# Altium footprint library LPEDT_Parts.PcbLib: 24 footprints (part 1 of 2)
Each footprint in its own frame and in the unit in brackets; x right, y up, seen from the top. Pads: shape width x height; smd on the part's side, far side on the other; paste and mask are expansions set on the pad; w line width, h text height; cw(c..) or ccw(c..) is an arc to the next point about the centre after c.
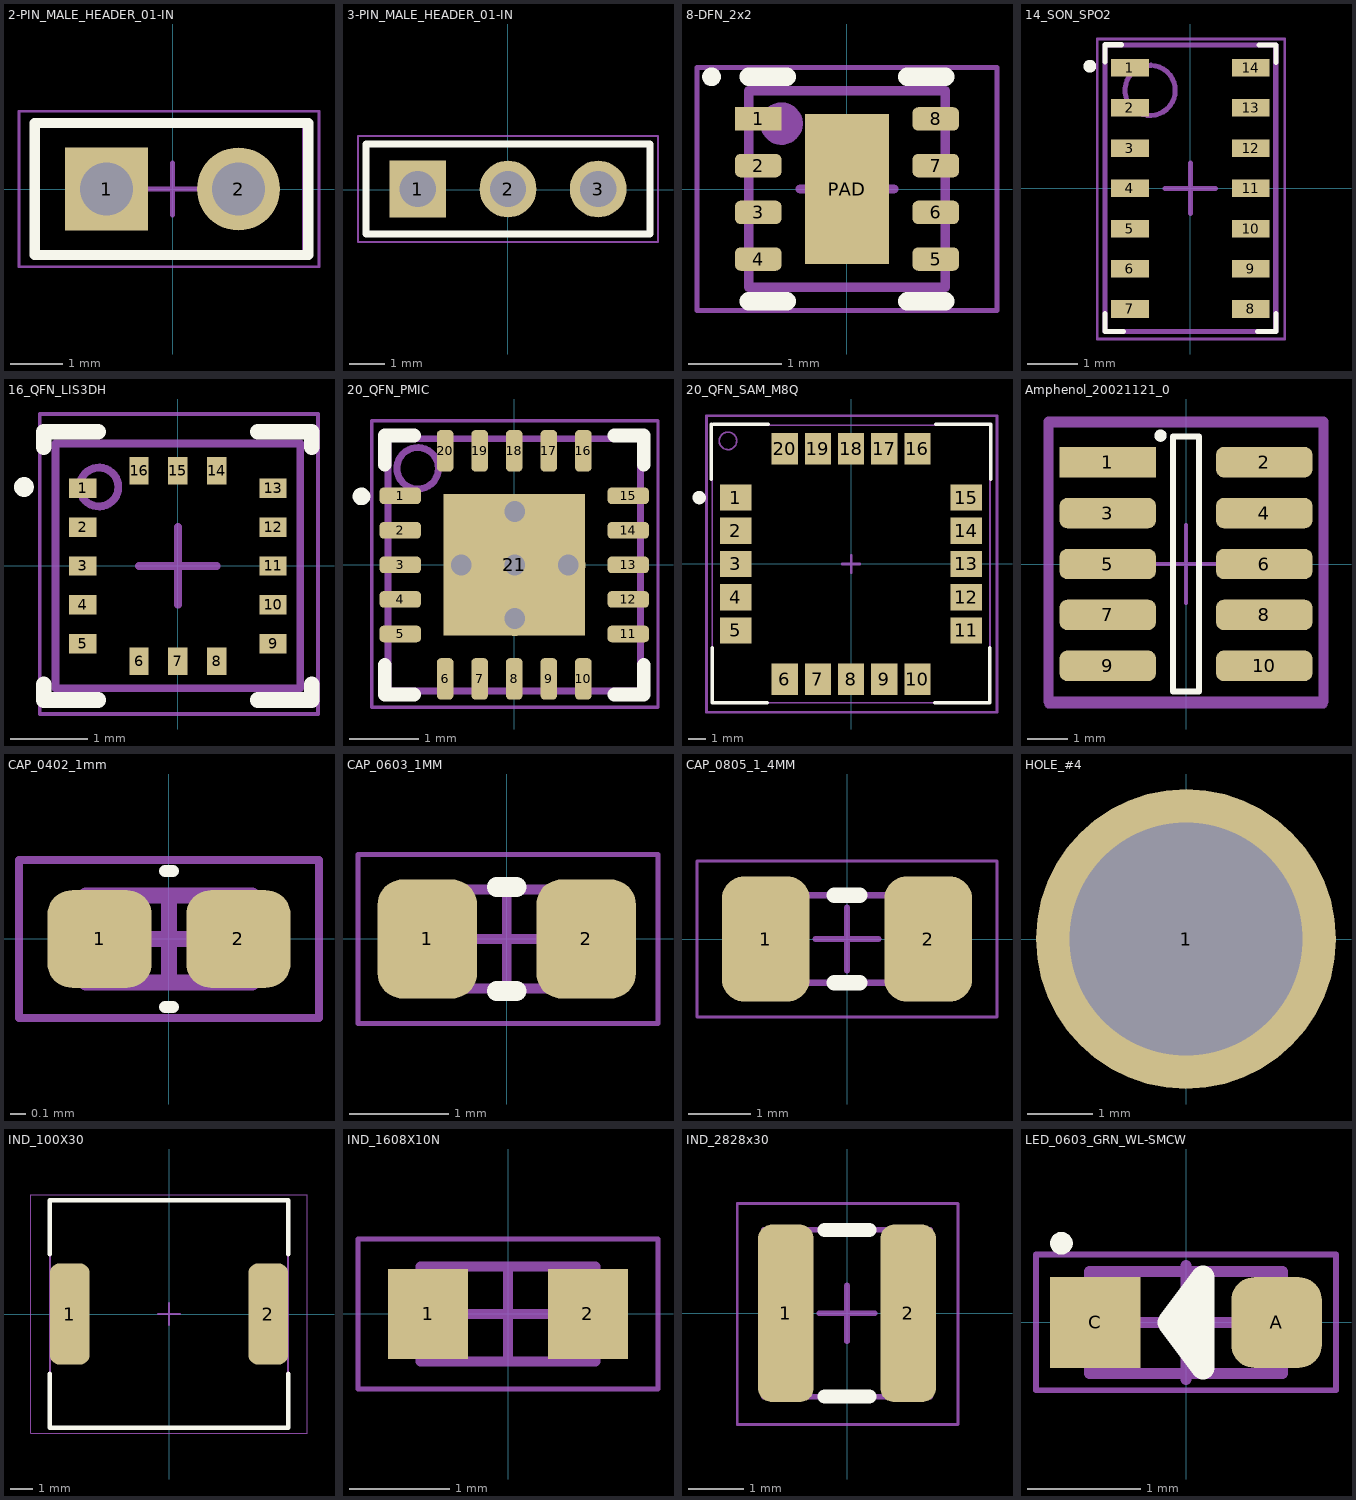
[diagram p0: the footprints below, top view; thin cyan lines are the x and y axes]

## 2-PIN_MALE_HEADER_01-IN [mm] ".025 SQ Post Terminal Strip Assembly, 1x2 Pins, Vertical, 2.54mm Pitch, Male"
height 8.58
pads (2):
  rect 1.6x1.6 hole 1.02: 1(-1.27,0)
  round 1.6 hole 1.02: 2(1.27,0)
Top Overlay:
  lines w0.2: -2.654,-1.27 -2.654,1.27 2.616,1.27 2.616,-1.27 -2.654,-1.27
Mechanical 13:
  lines w0.1: -2.616,-1.27 -2.616,1.27 2.54,1.27 2.54,-1.27 -2.616,-1.27
  text ".Designator" at -2.032,-0.813 h2.54
Mechanical 15:
  lines w0.05: -2.955,-1.495 -2.955,1.495 2.819,1.495 2.819,-1.495 -2.955,-1.495
  lines w0.1: -0.5,0 0.5,0 ; 0,-0.5 0,0.5
3D body "HTSW-102-07-H-S.stp": height 8.38, standoff -2.54, extent -2.54,-1.194 2.54,1.295

## 3-PIN_MALE_HEADER_01-IN [mm] ".025 SQ Post Terminal Strip Assembly, 1x3 Pins, Vertical, 2.54mm Pitch, Male"
height 8.58
pads (3):
  rect 1.6x1.6 hole 1.02: 1(-2.54,0.025)
  round 1.6 hole 1.02: 2(0,0.025) 3(2.54,0.025)
Top Overlay:
  lines w0.2: -4,-1.245 -4,1.295 4,1.295 4,-1.245 -4,-1.245
Mechanical 13:
  lines w0.1: -4,-1.245 -4,1.295 4,1.295 4,-1.245 -4,-1.245
  text ".Designator" at -3.454,-0.838 h2.54
Mechanical 15:
  lines w0.05: -4.225,-1.47 -4.225,1.52 4.225,1.52 4.225,-1.47 -4.225,-1.47
  lines w0.1: -0.5,0.025 0.5,0.025 ; 0,-0.475 0,0.525
3D body "User Library-Header_Male_3Pin.STEP": height 8.54, standoff -3, extent -3.81,-1.245 3.81,1.245

## 8-DFN_2x2 [mm] "DFN, 8-leads, Body 2.00x2.00mm, Pitch 0.50mm, Thermal Pad 1.60x0.69mm, IPC Medium Density"
height 0.8
pads (9):
  rect 0.5x0.25 smd mask+0.07: 1(-0.95,0.75)
  rrect50% 0.5x0.25 smd mask+0.07: 2(-0.95,0.25) 3(-0.95,-0.25) 4(-0.95,-0.75) 5(0.95,-0.75) 6(0.95,-0.25) 7(0.95,0.25) 8(0.95,0.75)
  rect 0.9x1.6 smd paste-1 mask+0.07: PAD(0,0)
Top Overlay:
  circle w0.1: c-1.45,1.2 r0.05
  lines w0.2: -1.05,-1.2 -0.645,-1.2 ; -1.05,1.2 -0.645,1.2 ; 0.645,-1.2 1.05,-1.2 ; 0.645,1.2 1.05,1.2
Top Paste:
  rectangle: -0.45,0.1 0.45,0.8
  rectangle: -0.45,-0.8 0.45,-0.1
Mechanical 13:
  circle w0.254: c-0.7,0.7 r0.1
  lines w0.1: -1.05,-1.05 -1.05,1.05 1.05,1.05 1.05,-1.05 -1.05,-1.05
  text ".Designator" at -0.965,-0.625 h1.27
Mechanical 15:
  lines w0.05: -1.605,-1.3 -1.605,1.3 1.605,1.3 1.605,-1.3 -1.605,-1.3
  lines w0.1: -0.5,0 0.5,0 ; 0,-0.5 0,0.5
3D body "8-DFN_2x2.step": height 0.8, standoff 0, extent -1.051,-1.05 1.051,1.05

## 14_SON_SPO2 [mm] "SON, 14-Leads, Body 5.60x3.30mm, Pitch 1.27mm, IPC Medium Density"
height 1.65
pads (14):
  rect 0.75x0.35 smd mask+0.076: 1(-1.2,2.4) 2(-1.2,1.6) 3(-1.2,0.8) 4(-1.2,0) 5(-1.2,-0.8) 6(-1.2,-1.6) 7(-1.2,-2.4) 8(1.2,-2.4) 9(1.2,-1.6) 10(1.2,-0.8) 11(1.2,0) 12(1.2,0.8) 13(1.2,1.6) 14(1.2,2.4)
Top Overlay:
  circle w0.152: c-2,2.43 r0.051
  lines w0.1: -1.702,-2.489 -1.702,-2.845 -1.333,-2.845 ; -1.702,2.515 -1.702,2.857 -1.372,2.857 ; 1.333,-2.845 1.702,-2.845 1.702,-2.489 ; 1.372,2.851 1.702,2.851 1.702,2.508
Mechanical 3:
  lines w0.05: -1.854,-2.997 1.88,-2.997 1.88,2.972 -1.854,2.972 -1.854,-2.997
  lines w0.1: -0.5,0 0.5,0 ; 0,-0.5 0,0.5
Mechanical 13:
  circle w0.1: c-0.8,1.95 r0.5
  lines w0.1: -1.7,-2.85 1.7,-2.85 1.7,2.85 -1.7,2.85 -1.7,-2.85
  text ".Designator" at -1.537,-2.68 h2.03
3D body "MAX30102EFD+T.STEP": height 1.65, standoff 0, extent -1.65,-2.81 1.65,2.79

## 16_QFN_LIS3DH [mm] "QFN, 16-Leads, Body 3.00x3.00mm, Pitch 0.50mm, Thermal Pad 1.25x2.25mm, IPC Medium Density"
height 1
pads (16):
  rect 0.35x0.25 smd mask+0.05: 1(-1.225,1) 2(-1.225,0.5) 3(-1.225,0) 4(-1.225,-0.5) 5(-1.225,-1) 9(1.225,-1) 10(1.225,-0.5) 11(1.225,0) 12(1.225,0.5) 13(1.225,1)
  rect 0.25x0.35 smd mask+0.05: 6(-0.5,-1.225) 7(0,-1.225) 8(0.5,-1.225) 14(0.5,1.225) 15(0,1.225) 16(-0.5,1.225)
Top Overlay:
  circle w0.152: c-1.981,1.016 r0.051
  lines w0.2: -1.725,-1.525 -1.725,-1.725 -1.025,-1.725 ; -1.725,1.525 -1.725,1.725 -1.025,1.725 ; 1.025,-1.725 1.725,-1.725 1.725,-1.525 ; 1.025,1.725 1.725,1.725 1.725,1.525
Mechanical 13:
  circle w0.1: c-1.016,1.016 r0.25
  lines w0.1: -1.575,-1.575 -1.575,1.575 1.575,1.575 1.575,-1.575 -1.575,-1.575
  text ".Designator" at -1.41,-1.114 h1.78
Mechanical 15:
  lines w0.05: -1.778,-1.905 -1.778,1.956 1.803,1.956 1.803,-1.905 -1.778,-1.905
  lines w0.1: -0.5,0 0.5,0 ; 0,-0.5 0,0.5
3D body "LIS3DH--3DModel-STEP-56544.STEP": height 1, standoff 0, extent -1.5,-1.5 1.5,1.5

## 20_QFN_PMIC [mm]
height 1
pads (21):
  rrect50% 0.6x0.24 smd mask+0.07: 1(-1.65,1) 2(-1.65,0.5) 3(-1.65,0) 4(-1.65,-0.5) 5(-1.65,-1) 11(1.65,-1) 12(1.65,-0.5) 13(1.65,0) 14(1.65,0.5) 15(1.65,1)
  rrect50% 0.24x0.6 smd mask+0.07: 6(-1,-1.65) 7(-0.5,-1.65) 8(0,-1.65) 9(0.5,-1.65) 10(1,-1.65) 16(1,1.65) 17(0.5,1.65) 18(0,1.65) 19(-0.5,1.65) 20(-1,1.65)
  rect 2.05x2.05 smd paste-1 mask+0.07: 21(0,0)
via 0.007,-0.777 diameter 0.5 hole 0.3
via 0.782,-0.002 diameter 0.5 hole 0.3
via 0.007,0.773 diameter 0.5 hole 0.3
via -0.768,-0.002 diameter 0.5 hole 0.3
via 0.007,-0.002 diameter 0.5 hole 0.3
Top Overlay:
  circle w0.152: c-2.21,0.991 r0.051
  lines w0.2: -1.873,-1.448 -1.873,-1.873 -1.448,-1.873 ; -1.873,1.448 -1.873,1.873 -1.448,1.873 ; 1.448,-1.873 1.873,-1.873 1.873,-1.448 ; 1.448,1.873 1.873,1.873 1.873,1.448
Top Paste:
  region: -0.24,-0.25 -1.025,-0.25 -1.025,-1.027 -0.24,-1.027
  region: 1.024,-0.249 0.255,-0.249 0.255,-1.027 1.024,-1.027
  rectangle: 0.254,0.245 1.024,1.029
  rectangle: -1.027,0.246 -0.241,1.029
Mechanical 13:
  circle w0.1: c-1.397,1.397 r0.3
  lines w0.1: -1.825,-1.825 -1.825,1.825 1.825,1.825 1.825,-1.825 -1.825,-1.825
  text ".Designator" at -1.537,-1.257 h2.03
Mechanical 15:
  lines w0.05: -2.062,-2.057 -2.062,2.083 2.08,2.083 2.08,-2.057 -2.062,-2.057
  lines w0.1: -0.5,0 0.5,0 ; 0,-0.5 0,0.5
3D body "BQ25570RGRT.STEP": height 1, standoff 0, extent -1.75,-1.75 1.75,1.75

## 20_QFN_SAM_M8Q [mm] "QFN, 20-Leads, Body 15.65x15.65mm, Pitch 1.90mm, Thermal Pad 9.10x9.10mm, IPC Medium Density"
height 6.8
pads (20):
  rect 1.8x1.5 smd paste-1: 1(-6.6,3.8) 2(-6.6,1.9) 3(-6.6,0) 4(-6.6,-1.9) 5(-6.6,-3.8) 11(6.6,-3.8) 12(6.6,-1.9) 13(6.6,0) 14(6.6,1.9) 15(6.6,3.8)
  rect 1.5x1.8 smd paste-1: 6(-3.8,-6.6) 7(-1.9,-6.6) 8(0,-6.6) 9(1.9,-6.6) 10(3.8,-6.6) 16(3.8,6.6) 17(1.9,6.6) 18(0,6.6) 19(-1.9,6.6) 20(-3.8,6.6)
Top Overlay:
  circle w0.508: c-8.7,3.8 r0.125
  lines w0.2: -8,4.85 -8,8 ; -7.95,-4.8 -7.95,-7.95 -4.8,-7.95 ; -7.9,8 -4.75,8 ; 4.8,-7.95 7.95,-7.95 7.95,-4.8 ; 4.85,8 8,8 8,4.85
Top Paste:
  rectangle: -4.52,5.74 -3.94,6.46
  rectangle: -3.66,5.74 -3.08,6.46
  rectangle: -4.52,6.74 -3.94,7.46
  rectangle: -3.66,6.74 -3.08,7.46
  rectangle: -1.76,5.74 -1.18,6.46
  rectangle: -1.76,6.74 -1.18,7.46
  rectangle: -2.62,5.74 -2.04,6.46
  rectangle: -2.62,6.74 -2.04,7.46
  rectangle: 0.14,5.74 0.72,6.46
  rectangle: 0.14,6.74 0.72,7.46
  rectangle: -0.72,5.74 -0.14,6.46
  rectangle: -0.72,6.74 -0.14,7.46
  rectangle: 2.04,5.74 2.62,6.46
  rectangle: 2.04,6.74 2.62,7.46
  rectangle: 1.18,5.74 1.76,6.46
  rectangle: 1.18,6.74 1.76,7.46
  rectangle: 3.94,5.74 4.52,6.46
  rectangle: 3.94,6.74 4.52,7.46
  rectangle: 3.08,5.74 3.66,6.46
  rectangle: 3.08,6.74 3.66,7.46
  rectangle: -4.52,-7.46 -3.94,-6.74
  rectangle: -3.66,-7.46 -3.08,-6.74
  rectangle: -4.52,-6.46 -3.94,-5.74
  rectangle: -3.66,-6.46 -3.08,-5.74
  rectangle: -1.76,-7.46 -1.18,-6.74
  rectangle: -1.76,-6.46 -1.18,-5.74
  rectangle: -2.62,-7.46 -2.04,-6.74
  rectangle: -2.62,-6.46 -2.04,-5.74
  rectangle: 0.14,-7.46 0.72,-6.74
  rectangle: 0.14,-6.46 0.72,-5.74
  rectangle: -0.72,-7.46 -0.14,-6.74
  rectangle: -0.72,-6.46 -0.14,-5.74
  rectangle: 2.04,-7.46 2.62,-6.74
  rectangle: 2.04,-6.46 2.62,-5.74
  rectangle: 1.18,-7.46 1.76,-6.74
  rectangle: 1.18,-6.46 1.76,-5.74
  rectangle: 3.94,-7.46 4.52,-6.74
  rectangle: 3.94,-6.46 4.52,-5.74
  rectangle: 3.08,-7.46 3.66,-6.74
  rectangle: 3.08,-6.46 3.66,-5.74
  region: -5.74,-4.52 -5.74,-3.94 -6.46,-3.94 -6.46,-4.52
  region: -5.74,-3.66 -5.74,-3.08 -6.46,-3.08 -6.46,-3.66
  region: -6.74,-4.52 -6.74,-3.94 -7.46,-3.94 -7.46,-4.52
  region: -6.74,-3.66 -6.74,-3.08 -7.46,-3.08 -7.46,-3.66
  region: -5.74,-1.76 -5.74,-1.18 -6.46,-1.18 -6.46,-1.76
  region: -6.74,-1.76 -6.74,-1.18 -7.46,-1.18 -7.46,-1.76
  region: -5.74,-2.62 -5.74,-2.04 -6.46,-2.04 -6.46,-2.62
  region: -6.74,-2.62 -6.74,-2.04 -7.46,-2.04 -7.46,-2.62
  region: -5.74,0.14 -5.74,0.72 -6.46,0.72 -6.46,0.14
  region: -6.74,0.14 -6.74,0.72 -7.46,0.72 -7.46,0.14
  region: -5.74,-0.72 -5.74,-0.14 -6.46,-0.14 -6.46,-0.72
  region: -6.74,-0.72 -6.74,-0.14 -7.46,-0.14 -7.46,-0.72
  region: -5.74,2.04 -5.74,2.62 -6.46,2.62 -6.46,2.04
  region: -6.74,2.04 -6.74,2.62 -7.46,2.62 -7.46,2.04
  region: -5.74,1.18 -5.74,1.76 -6.46,1.76 -6.46,1.18
  region: -6.74,1.18 -6.74,1.76 -7.46,1.76 -7.46,1.18
  region: -5.74,3.94 -5.74,4.52 -6.46,4.52 -6.46,3.94
  region: -6.74,3.94 -6.74,4.52 -7.46,4.52 -7.46,3.94
  region: -5.74,3.08 -5.74,3.66 -6.46,3.66 -6.46,3.08
  region: -6.74,3.08 -6.74,3.66 -7.46,3.66 -7.46,3.08
  region: 7.46,-4.52 7.46,-3.94 6.74,-3.94 6.74,-4.52
  region: 7.46,-3.66 7.46,-3.08 6.74,-3.08 6.74,-3.66
  region: 6.46,-4.52 6.46,-3.94 5.74,-3.94 5.74,-4.52
  region: 6.46,-3.66 6.46,-3.08 5.74,-3.08 5.74,-3.66
  region: 7.46,-1.76 7.46,-1.18 6.74,-1.18 6.74,-1.76
  region: 6.46,-1.76 6.46,-1.18 5.74,-1.18 5.74,-1.76
  region: 7.46,-2.62 7.46,-2.04 6.74,-2.04 6.74,-2.62
  region: 6.46,-2.62 6.46,-2.04 5.74,-2.04 5.74,-2.62
  region: 7.46,0.14 7.46,0.72 6.74,0.72 6.74,0.14
  region: 6.46,0.14 6.46,0.72 5.74,0.72 5.74,0.14
  region: 7.46,-0.72 7.46,-0.14 6.74,-0.14 6.74,-0.72
  region: 6.46,-0.72 6.46,-0.14 5.74,-0.14 5.74,-0.72
  region: 7.46,2.04 7.46,2.62 6.74,2.62 6.74,2.04
  region: 6.46,2.04 6.46,2.62 5.74,2.62 5.74,2.04
  region: 7.46,1.18 7.46,1.76 6.74,1.76 6.74,1.18
  region: 6.46,1.18 6.46,1.76 5.74,1.76 5.74,1.18
  region: 7.46,3.94 7.46,4.52 6.74,4.52 6.74,3.94
  region: 6.46,3.94 6.46,4.52 5.74,4.52 5.74,3.94
  region: 7.46,3.08 7.46,3.66 6.74,3.66 6.74,3.08
  region: 6.46,3.08 6.46,3.66 5.74,3.66 5.74,3.08
Mechanical 13:
  circle w0.1: c-7.05,7.05 r0.5
  lines w0.1: -7.95,-7.95 -7.95,7.95 7.95,7.95 7.95,-7.95 -7.95,-7.95
  text ".Designator" at -6.248,-4.191 h7.62
Mechanical 15:
  lines w0.15: -0.5,0 0.5,0 ; 0,-0.5 0,0.5 ; -8.28,-8.5 -8.28,8.5 8.357,8.5 8.357,-8.5 -8.28,-8.5
3D body "SAM-M8Q-0-10--3DModel-STEP-1.STEP": height 6.8, standoff 0, extent -7.75,-7.75 7.75,7.75

## Amphenol_20021121_0 [mm]
pads (10):
  rect 2.4x0.76 smd paste+0 mask+0.051: 1(-1.95,2.54)
  rrect50% 2.4x0.76 smd paste+0 mask+0.051: 2(1.95,2.54) 3(-1.95,1.27) 4(1.95,1.27) 5(-1.95,0) 6(1.95,0) 7(-1.95,-1.27) 8(1.95,-1.27) 9(-1.95,-2.54) 10(1.95,-2.54)
Top Overlay:
  circle w0.152: c-0.635,3.2 r0.076
  lines w0.152: -0.325,-3.175 -0.325,3.175 0.325,3.175 0.325,-3.175 -0.325,-3.175
Mechanical 13:
  lines w0.254: -3.429,-3.429 3.429,-3.429 3.429,3.556 -3.429,3.556 -3.429,-3.429
  text ".Designator" at -2.921,-2.413 h1.52
Mechanical 15:
  lines w0.1: -0.975,0 0.975,0 ; 0,-0.975 0,0.975
  lines w0.2: -3.429,-3.5 -3.429,3.5 3.429,3.5 3.429,-3.5 -3.429,-3.5
3D body "20021121-00010C1LF--3DModel-STEP-533217.STEP": height 4.51, standoff 0.01, extent -2.75,-3.175 2.75,3.175

## CAP_0402_1mm [mm] "1.00x0.5"
height 0.55
pads (2):
  rrect50% 0.66x0.62 smd mask+0.08: 1(-0.44,0) 2(0.44,0)
Top Overlay:
  lines w0.076: -0.025,-0.432 0.025,-0.432 ; -0.025,0.432 0.025,0.432
Mechanical 13:
  lines w0.1: -0.525,-0.275 -0.525,0.275 0.525,0.275 0.525,-0.275 -0.525,-0.275
  text ".Designator" at -0.405,-0.158 h0.28
Mechanical 15:
  lines w0.05: -0.95,-0.5 -0.95,0.5 0.95,0.5 0.95,-0.5 -0.95,-0.5
  lines w0.1: -0.275,0 0.275,0 ; 0,-0.275 0,0.275
3D body "CAP_0402_1mm.step": height 0.55, standoff 0, extent -0.525,-0.275 0.525,0.275

## CAP_0603_1MM [mm] "Chip Capacitor, 2-Leads, Body 1.60x0.80mm, IPC Medium Density"
height 1
pads (2):
  rrect50% 1x1.2 smd: 1(-0.8,0) 2(0.8,0)
Top Overlay:
  lines w0.2: -0.1,-0.525 0.1,-0.525 ; -0.1,0.525 0.1,0.525
Mechanical 13:
  lines w0.1: -0.9,-0.5 0.9,-0.5 0.9,0.5 -0.9,0.5 -0.9,-0.5
  text ".Designator" at -0.813,-0.33 h1.02
Mechanical 15:
  lines w0.05: -1.499,-0.85 1.524,-0.85 1.524,0.85 -1.499,0.85 -1.499,-0.85
  lines w0.1: -0.5,0 0.5,0 ; 0,-0.5 0,0.5
3D body "CAP_0603_1608X10.step": height 1, standoff 0, extent -0.9,-0.5 0.9,0.5

## CAP_0805_1_4MM [mm] "Chip Capacitor, 2-Leads, Body 2.00x1.25mm, IPC Medium Density"
height 1.4
pads (2):
  rrect50% 1.4x2 smd: 1(-1.3,0) 2(1.3,0)
Top Overlay:
  lines w0.254: -0.2,-0.7 0.2,-0.7 ; -0.2,0.7 0.2,0.7
Mechanical 13:
  lines w0.1: -1.075,-0.7 1.075,-0.7 1.075,0.7 -1.075,0.7 -1.075,-0.7
  text ".Designator" at -0.9,-0.409 h1.02
Mechanical 15:
  lines w0.05: -2.4,-1.25 -2.4,1.25 2.4,1.25 2.4,-1.25 -2.4,-1.25
  lines w0.1: -0.5,0 0.5,0 ; 0,-0.5 0,0.5
3D body: height 1.4, standoff 0, extent 0.625,-0.7 1.075,0.7
3D body: height 1.4, standoff 0, extent -1.075,-0.7 -0.625,0.7
3D body "GRM21BR61E106KA73L.STEP": height 1.28, standoff 0.03, extent -1,-0.7 1,0.7

## HOLE_#4 [mil]
pads (1):
  round 180 hole 140: 1(0,0)

## IND_100X30 [mm]
height 3.08
pads (2):
  rrect50% 1.8x4.6 smd: 1(-4.5,0) 2(4.5,0)
Top Overlay:
  lines w0.2: -5.4,-2.7 -5.4,-5.15 5.4,-5.15 5.4,-2.7 ; -5.4,2.7 -5.4,5.15 5.4,5.15 5.4,2.7
Mechanical 13:
  lines w0.1: -5.4,-5.15 5.4,-5.15 5.4,5.15 -5.4,5.15 -5.4,-5.15
  text ".Designator" at -4.567,-3.397 h6.35
Mechanical 15:
  lines w0.05: -6.275,-5.4 6.275,-5.4 6.275,5.4 -6.275,5.4 -6.275,-5.4
  lines w0.1: -0.5,0 0.5,0 ; 0,-0.5 0,0.5
3D body "IND_100X30.step": height 3.18, standoff 0, extent -5.5,-5 5.5,5

## IND_1608X10N [mm] "Chip Inductor, 2-Leads, Body 1.60x0.80mm, IPC Medium Density"
height 0.95
pads (2):
  rect 0.8x0.9 smd: 1(-0.8,0) 2(0.8,0)
Mechanical 13:
  lines w0.1: -0.875,-0.475 0.875,-0.475 0.875,0.475 -0.875,0.475 -0.875,-0.475
  text ".Designator" at -0.692,-0.393 h0.96
Mechanical 15:
  lines w0.05: -1.5,-0.75 1.5,-0.75 1.5,0.75 -1.5,0.75 -1.5,-0.75
  lines w0.1: -0.475,0 0.475,0 ; 0,-0.475 0,0.475
3D body: height 0.95, standoff 0, extent 0.475,-0.475 0.875,0.475
3D body: height 0.95, standoff 0, extent -0.875,-0.475 -0.475,0.475
3D body: height 0.95, standoff 0, extent -0.475,-0.475 0.475,0.475

## IND_2828x30 [mm] "Precision Wire Wound Inductor, 2-Leads, Body 2.80x2.80mm, IPC Medium Density"
height 3
pads (2):
  rrect50% 1x3.2 smd: 1(-1.1,0) 2(1.1,0)
Top Overlay:
  lines w0.254: -0.4,-1.5 0.4,-1.5 ; -0.4,1.5 0.4,1.5
Mechanical 13:
  lines w0.1: -1.5,-1.5 1.5,-1.5 1.5,1.5 -1.5,1.5 -1.5,-1.5
  text ".Designator" at -1.4,-0.918 h2.03
Mechanical 15:
  lines w0.05: -1.975,-2 2,-2 2,-0.95 2,0.8 2,1.975 -1.975,1.975 -1.975,-2
  lines w0.1: -0.5,0 0.5,0 ; 0,-0.5 0,0.5
3D body "744025001_Download_STP_WE-TPC-2828_rev1.stp": height 2.8, standoff 0, extent -1.4,-1.4 1.4,1.4

## LED_0603_GRN_WL-SMCW [mm] "SODFL, 2-Leads, Body 0.80x1.80mm, IPC Medium Density"
height 0.8
pads (2):
  rrect50% 0.8x0.8 smd: A(0.8,0)
  rect 0.8x0.8 smd: C(-0.8,0)
Top Overlay:
  circle w0.1: c-1.1,0.7 r0.05
  lines w0.2: -0.15,0 0.05,0
  lines w0.205: -0.15,0 0.15,0.4 0.15,-0.4 -0.15,0
Mechanical 13:
  lines w0.1: -0.85,-0.45 0.85,-0.45 0.85,0.45 -0.85,0.45 -0.85,-0.45
  text ".Designator" at -0.699,-0.292 h0.89
Mechanical 15:
  lines w0.05: -1.325,-0.6 1.325,-0.6 1.325,0.6 -1.325,0.6 -1.325,-0.6
  lines w0.1: -0.5,0 0.5,0 ; 0,-0.5 0,0.5
3D body "LED_0603_WURTH_WL-SMCW_base.step": height 0.65, standoff 0.01, extent -0.8,-0.4 0.8,0.4
3D body "LED_0603_WURTH_WL-SMCW_lens.step": height 0.71, standoff 0.31, extent -0.55,-0.4 0.55,0.4